# Altium schematic symbol library Relay.SchLib: 11 symbols
Pins are listed as number, name and electrical type; pins without a type are passive.

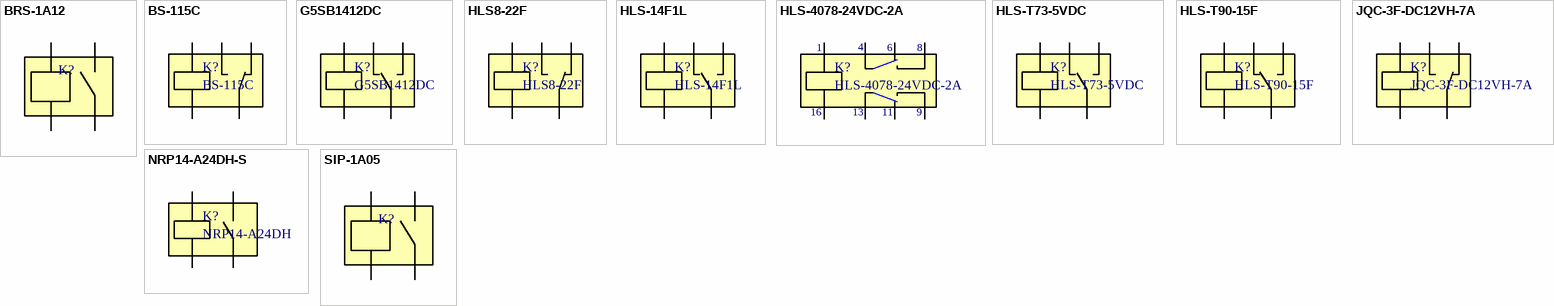
[diagram p0: symbols BRS-1A12 to SIP-1A05]

## BRS-1A12
designator K?
1A, 10Vdc, 1 pole, SIP terminal
footprint R_BRS
pins: 1, 3, 5, 7

## BS-115C
designator K?
7A 240Vac 1 pole Slim relay
footprint BS-115C-12A
pins: 1 "Coil_1", 2, 3 "Main_contact", 4 "Contact_OFF", 5 "Contact_ON"

## G5SB1412DC
designator K?
5A 250 VAC
footprint G5SB1412DC
pins: 1, 2, 3, 4, 5

## HLS8-22F
designator K?
15A 240Vac 1 pole Slim relay
footprint BS-115C-12A
pins: 1 "Coil_1", 2, 3 "Main_contact", 4 "Contact_OFF", 5 "Contact_ON"

## HLS-14F1L
designator K?
10A 240Vac 1 pole Slim relay
footprint HLS-14F1L
pins: 1, 2, 3, 4, 5

## HLS-4078-24VDC-2A
designator K?
2A 240VAC
footprint HLS-4078
pins: 1, 4, 6, 8, 9, 11, 13, 16

## HLS-T73-5VDC
designator K?
7A 240Vac 1 pole Slim relay
footprint HLS-T73-5VDC
pins: 1 "Coil_1", 2, 3 "Main_contact", 4 "Contact_OFF", 5 "Contact_ON"

## HLS-T90-15F
designator K?
7A 240Vac 1 pole Slim relay
footprint HLS-T90-15F
pins: 1 "Coil_1", 2, 3 "Main_contact", 4 "Contact_ON", 5 "Contact_OFF"

## JQC-3F-DC12VH-7A
designator K?
7A 240Vac 1 pole Slim relay
footprint BS-115C-12A
pins: 1 "Coil_1", 2, 3 "Main_contact", 4 "Contact_OFF", 5 "Contact_ON"

## NRP14-A24DH-S
designator K?, comment NRP14-A24DH
16A 240Vac 1 pole Slim relay
footprint NRP14
pins: 1, 2, 4, 5

## SIP-1A05
designator K?
1A, 10Vdc, 1 pole, SIP terminal
footprint R_BRS
pins: 1, 3, 5, 7